# Altium footprint library ADL5330.PcbLib: 1 footprints
Each footprint in its own frame and in the unit in brackets; x right, y up, seen from the top. Pads: shape width x height; smd on the part's side, far side on the other; paste and mask are expansions set on the pad; w line width, h text height; cw(c..) or ccw(c..) is an arc to the next point about the centre after c.
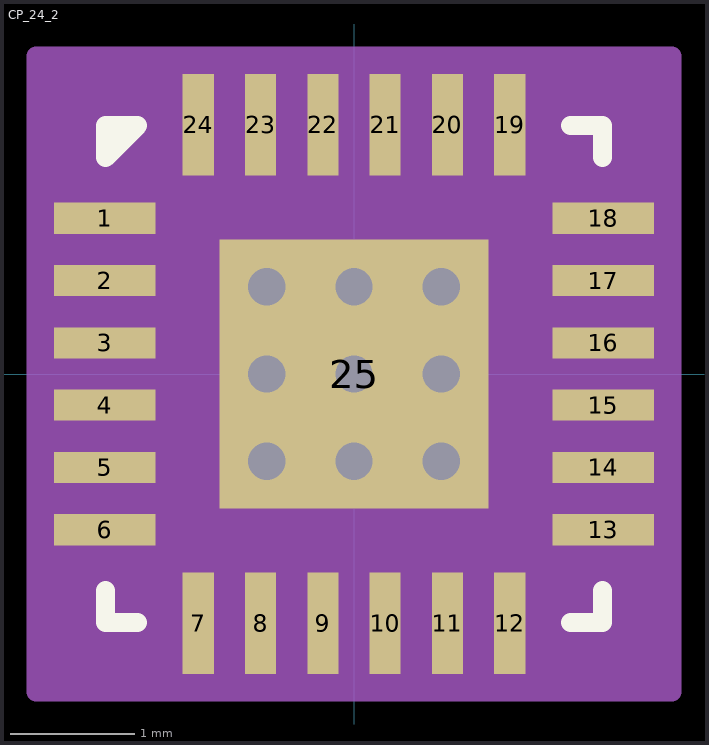
[diagram p0: the footprint, top view; thin cyan lines are the x and y axes]

## CP_24_2 [mm]
pads (25):
  rect 0.813x0.25 smd mask+0.127: 1(-2,1.25) 2(-2,0.75) 3(-2,0.25) 4(-2,-0.25) 5(-2,-0.75) 6(-2,-1.25) 13(2,-1.25) 14(2,-0.75) 15(2,-0.25) 16(2,0.25) 17(2,0.75) 18(2,1.25)
  rect 0.25x0.813 smd mask+0.127: 7(-1.25,-2) 8(-0.75,-2) 9(-0.25,-2) 10(0.25,-2) 11(0.75,-2) 12(1.25,-2) 19(1.25,2) 20(0.75,2) 21(0.25,2) 22(-0.25,2) 23(-0.75,2) 24(-1.25,2)
  rect 2.159x2.159 smd: 25(0,0)
via 0,0 diameter 0.6 hole 0.3
via -0.7,0.7 diameter 0.6 hole 0.3
via 0,0.7 diameter 0.6 hole 0.3
via 0.7,0 diameter 0.6 hole 0.3
via 0.7,0.7 diameter 0.6 hole 0.3
via 0.7,-0.7 diameter 0.6 hole 0.3
via 0,-0.7 diameter 0.6 hole 0.3
via -0.7,-0.7 diameter 0.6 hole 0.3
via -0.7,0 diameter 0.6 hole 0.3
Top Overlay:
  lines w0.152: -1.994,-1.735 -1.994,-1.994 -1.735,-1.994 ; 1.735,-1.994 1.994,-1.994 1.994,-1.735 ; 1.735,1.994 1.994,1.994 1.994,1.735 ; -1.994,1.735 -1.735,1.994 -1.994,1.994 -1.994,1.735
Mechanical 15:
  region: 2.553,-2.553 -2.553,-2.553 -2.553,2.553 2.553,2.553
  lines w0.152: -2.553,-2.553 -2.553,2.553 2.553,2.553 2.553,-2.553 -2.553,-2.553
3D body "CP_24_2.stp": height 0.97, standoff 0, extent -2.045,-2.045 2.045,2.045